# EAGLE library part ENC28J60 (library Eagle_CAD_parts)
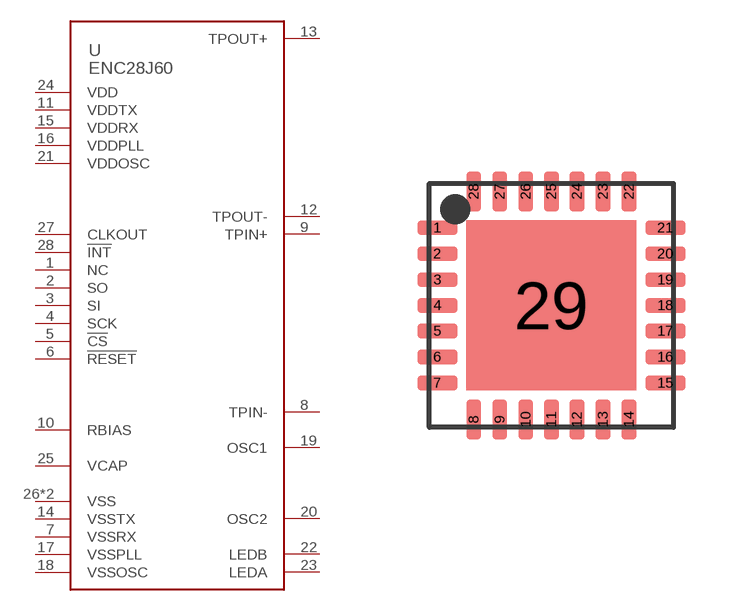
[diagram p81: symbol with the pads of 28-QFN-6X6; footprint 28-QFN-6X6]

Designator prefix U

## ENC28J60-I/ML (DIGIKEY_PART_NUMBER: ENC28J60-I/ML-ND; MANUFACTURER_PART_NUMBER: ENC28J60-I/ML)  [28-QFN-6X6]
1  NC
2  SO
3  SI
4  SCK
5  !CS
6  !RESET
7  VSSRX
8  TPIN-
9  TPIN+
10  RBIAS
11  VDDTX
12  TPOUT-
13  TPOUT+
14  VSSTX
15  VDDRX
16  VDDPLL
17  VSSPLL
18  VSSOSC
19  OSC1
20  OSC2
21  VDDOSC
22  LEDB
23  LEDA
24  VDD
25  VCAP
26  VSS
27  CLKOUT
28  !INT
29  VSS

## Footprint 28-QFN-6X6 (pad centres in mm)
smd 1 x 0.37: 1 -2.85,1.94; 2 -2.85,1.29; 3 -2.85,0.64; 4 -2.85,0; 5 -2.85,-0.64; 6 -2.85,-1.29; 7 -2.85,-1.94; 15 2.85,-1.94; 16 2.85,-1.29; 17 2.85,-0.64; 18 2.85,0; 19 2.85,0.64; 20 2.85,1.29; 21 2.85,1.94
smd 0.37 x 1: 8 -1.94,-2.85; 9 -1.29,-2.85; 10 -0.64,-2.85; 11 0,-2.85; 12 0.64,-2.85; 13 1.29,-2.85; 14 1.94,-2.85; 22 1.94,2.85; 23 1.29,2.85; 24 0.64,2.85; 25 0,2.85; 26 -0.64,2.85; 27 -1.29,2.85; 28 -1.94,2.85
smd 4.25 x 4.25: 29 0,0